# Altium footprint library PcbLib.PcbLib: 3 footprints
Each footprint in its own frame and in the unit in brackets; x right, y up, seen from the top. Pads: shape width x height; smd on the part's side, far side on the other; paste and mask are expansions set on the pad; w line width, h text height; cw(c..) or ccw(c..) is an arc to the next point about the centre after c.
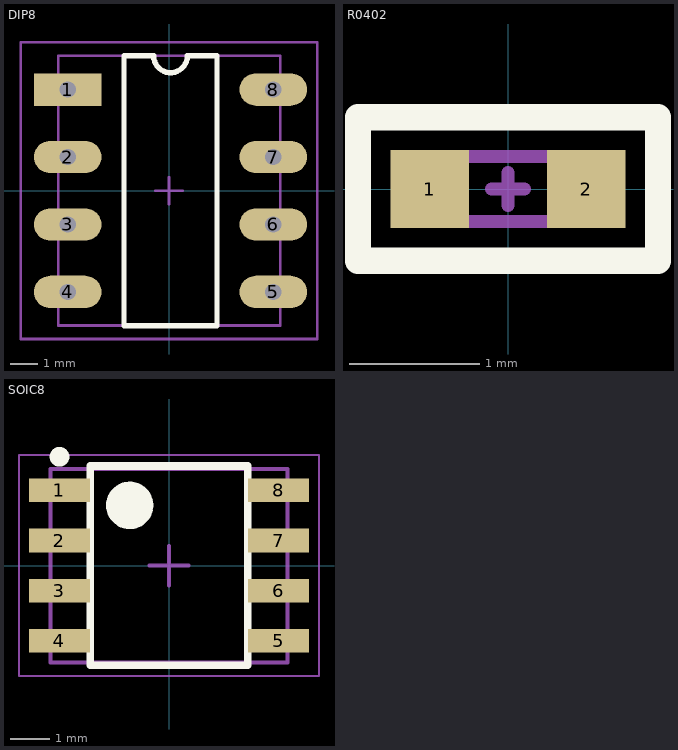
[diagram p0: the footprints below, top view; thin cyan lines are the x and y axes]

## DIP8 [mm]
pads (8):
  rect 2.5x1.2 hole 0.6: 1(-3.754,3.746)
  oval 2.5x1.2 hole 0.6: 2(-3.754,1.246) 3(-3.754,-1.254) 4(-3.754,-3.754) 5(3.866,-3.754) 6(3.866,-1.254) 7(3.866,1.246) 8(3.866,3.746)
Top Overlay:
  lines w0.2: -1.669,-5.004 1.781,-5.004 1.781,4.996 0.681,4.996 cw(c0.056,4.996) -0.569,4.996 -1.669,4.996 -1.669,-5.004
Top Контуры Компонентов:
  lines w0.1: 4.1,5 -4.1,5 -4.1,-5 4.125,-5 4.125,5
Top Граница Компонентов:
  lines w0.1: -0.5,0 0.5,0 ; 0,-0.5 0,0.5 ; -5.5,-5.5 -5.5,5.5 5.5,5.5 5.5,-5.5 -5.5,-5.5
3D body "User Library-PDIP-8.step": height 5.1, standoff -3.18, extent -4.13,-5 4.13,5

## R0402 [mm]
pads (2):
  rect 0.6x0.6 smd: 1(-0.6,0) 2(0.6,0)
Top Overlay:
  lines w0.2: -1.15,-0.55 1.15,-0.55 1.15,0.55 -1.15,0.55 -1.15,-0.55
Top Контуры Компонентов:
  lines w0.1: -0.5,-0.25 -0.5,0.25 0.5,0.25 0.5,-0.25 -0.5,-0.25
Top Граница Компонентов:
  lines w0.1: -0.125,0 0,0 ; 0,-0.125 0,0 ; 0,0.125 0,0 ; 0.125,0 0,0 ; -1.15,0.55 1.15,0.55 ; -1.15,0.55 1.15,0.55 ; -1.15,0.55 -1.15,-0.55 1.15,-0.55 1.15,0.55
3D body "User Library-User Library-RES0402-2.step": height 0.35, standoff 0, extent -0.5,-0.25 0.5,0.25

## SOIC8 [mm]
height 1.75
pads (8):
  rect 1.55x0.6 smd: 1(-2.775,1.905) 2(-2.775,0.635) 3(-2.775,-0.635) 4(-2.775,-1.905) 5(2.775,-1.905) 6(2.775,-0.635) 7(2.775,0.635) 8(2.775,1.905)
Top Overlay:
  circle w0.6: c-0.995,1.525 r0.3
  circle w0.25: c-2.775,2.755 r0.125
  lines w0.2: -1.995,-2.525 1.995,-2.525 1.995,2.525 -1.995,2.525 -1.995,-2.525
Top Контуры Компонентов:
  circle w0.1: c-1,1.525 r0.5
  lines w0.1: -3,-2.45 -3,2.45 3,2.45 3,-2.45 -3,-2.45 ; -2,-2.55 2,-2.55 2,2.55 -2,2.55 -2,-2.55
Top Граница Компонентов:
  lines w0.05: -3.8,-2.8 3.8,-2.8 3.8,2.8 -3.8,2.8 -3.8,-2.8
  lines w0.1: -0.5,0 0.5,0 ; 0,-0.5 0,0.5
3D body "User Library-SOIC-8-1.step": height 1.75, standoff 0, extent -3,-2.45 3,2.45